# Altium schematic symbol library B39871B3725U410.Schlib: 1 symbol
Pins are listed as number, name and electrical type; pins without a type are passive.

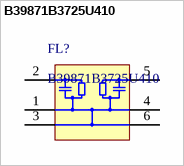
[diagram p0: symbol B39871B3725U410]

## B39871B3725U410
designator FL?
869MHz Frequency Remote Control RF SAW Filter (Sound Acoustic Wave) 2.5dB 2MHz Bandwidth 6-SMD, No Lead
pins: 1, 2, 3, 4, 5, 6